# Altium integrated library Custom Libs.IntLib: 56 symbols
Pins are listed as number, name and electrical type; pins without a type are passive.

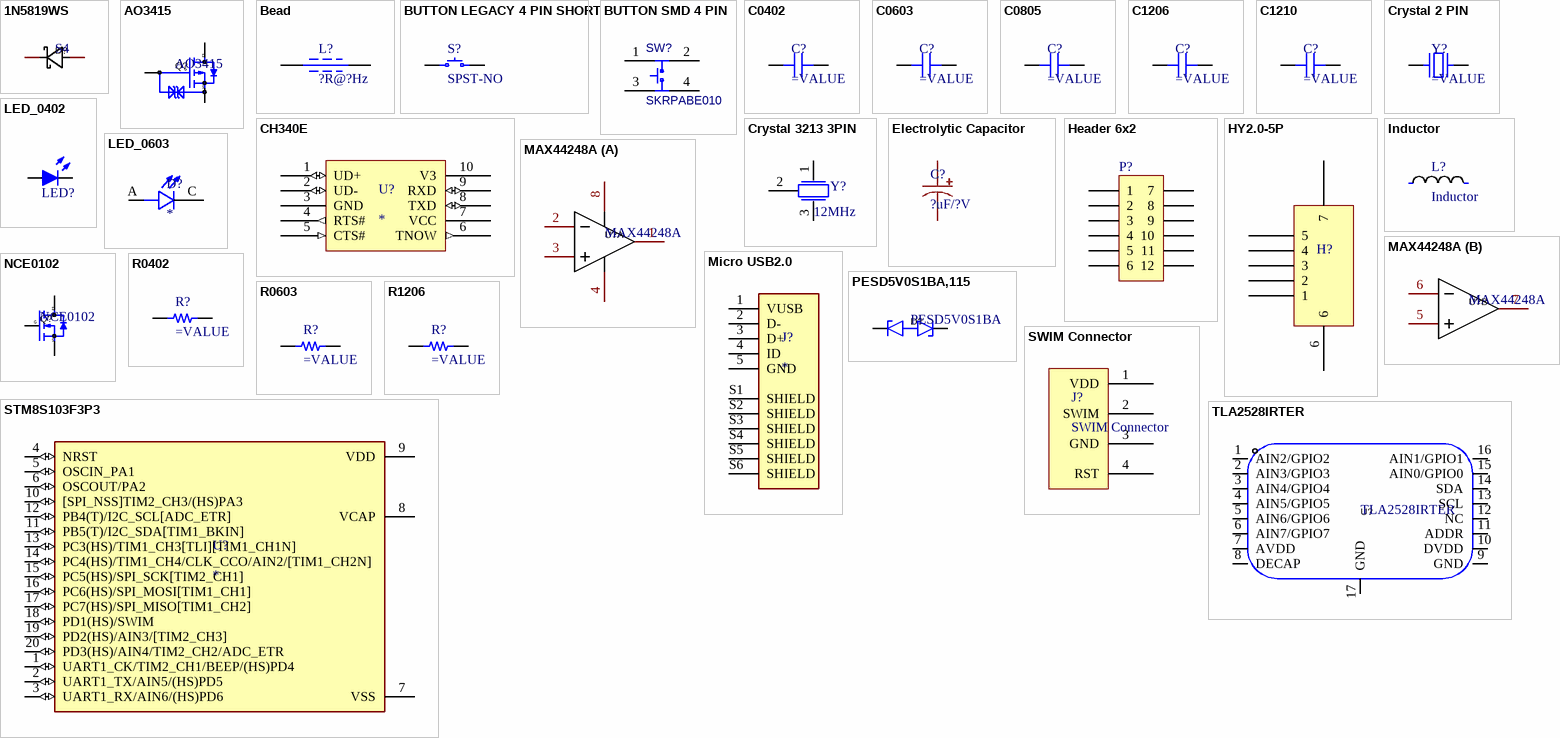
[diagram p0: symbols 1N5819WS to TLA2528IRTER]

## 1N5819WS
designator D?, comment S4
Schottky Diode 1N5819 , S4; Manufacturer: JSMSEMI(杰盛微); Symbol: 1N5819WS S4; Device: 1N5819WS S4_C2927280; Add into BOM: yes; Diode Configuration: 独立式; Forward Voltage (Vf@If): 600mV@200mA; Reverse Voltage (Vr): 40V; Average Rectified Current (Io): 350mA; Reverse Leakage Current (Ir): 5uA@30V; Supplier: LCSC; Supplier Part: C2927280; Manufacturer Part: 1N5819WS S4; JLCPCB Part Class: Extended Part; LCSC Part Name: 电压:40V 电流:350mA; Supplier Footprint: SOD-323; Datasheet: https://atta.szlcsc.com/upload/public/pdf/source/20211230/020DF3ABCB41CBA5E28580D63AFB2CA3.pdf; Convert to PCB: yes
footprint SOD-323
pins: 1 C, 2 A

## AO3415
designator Q?
20V Low Rds P-Channel MOSFET - Hottech; Manufacturer: Hottech(合科泰); Symbol: AO3415_C181094; Add into BOM: yes; Type: P沟道; Continuous Drain Current (Id): 4A; Power Dissipation (Pd): 1.5W; Drain Source On Resistance (RDS(on)@Vgs,Id): 41mΩ@4.5V,4A; Gate Threshold Voltage (Vgs(th)@Id): 900mV@250uA; Device: AO3415_C181094; LCSC Part Name: P沟道 耐压:20V 电流:4A; Supplier Part: C181094; Manufacturer Part: AO3415; Supplier Footprint: SOT-23; JLCPCB Part Class: Extended Part; Datasheet: https://atta.szlcsc.com/upload/public/pdf/source/20180131/C181094_15173931965481329223.pdf; Supplier: LCSC; Convert to PCB: yes; Drain Source Voltage (Vdss): 20V
footprint SOT-23-3
pins: 1 G, 2 S, 3 D

## Bead
designator L?, comment ?R@?Hz
Ferrite Bead.
pins: 1, 2

## BUTTON LEGACY 4 PIN SHORT
designator S?, comment SPST-NO
footprint BUTTON TE FSM4JSMA
pins: 1, 2, 3, 4

## BUTTON SMD 4 PIN
designator SW?, comment SKRPABE010
Surface Mount Button; BOM_Manufacturer: ALPS; BOM_Supplier: LCSC; BOM_Manufacturer Part: SKRPABE010; BOM_Supplier Part: C115360; spicePre: S; spiceSymbolName: SKRPABE010
footprint BUTTON SMD 4P_L4.20-W3.20
pins: 1, 2, 3, 4

## C0402
designator C?
SMT Capacitor
footprint 0402_C
pins: 1, 2

## C0603
designator C?
SMT Capacitor
footprint 0603_C
pins: 1, 2

## C0805
designator C?
SMT Capacitor
footprint 0805_C
pins: 1, 2

## C1206
designator C?
SMT Capacitor
footprint 1206_C
pins: 1, 2

## C1210
designator C?
Surface mount ceramic capacitor.
footprint 1210_C
pins: 1, 2

## CH340E
designator U?
USB to Serial Port Chip CH340
footprint MSOP-10
pins: 1 UD+ (io), 2 UD- (io), 3 GND (power), 4 RTS# (out), 5 CTS# (in), 6 TNOW (out) "CH340T/E/X/B: Ongoing data transmission", 7 VCC (power), 8 TXD (io), 9 RXD (io), 10 V3 (power) "Connect to VCC when VCC is 3V3, connect"

## Crystal 2 PIN
designator Y?
SMT Crystal
footprint Crystal 2PIn (Crystal, 2-Leads, Body 1.20x2.00mm, Pitch 1.50mm, IPC Medium Density)
pins: 1, 2

## Crystal 3213 3PIN
designator Y?, comment 12MHz
Crystal 3213 3pin, no external compensation capacitors needed.
footprint SMD3213_3P
pins: 1, 2, 3

## Electrolytic Capacitor
designator C?, comment ?uF/?V
Electrolytic Capacitor
footprint CAP-SMD_4x5.4mm
footprint CAP-SMD_6.3X7.7MM
footprint CAP-SMD_10X10.5MM
pins: 1, 2

## Header 6x2
designator P?
Header 6x2 100mil; LatestRevisionDate: 17-Jul-2002; LatestRevisionNote: Re-released for DXP Platform.; Publisher: Altium Limited
signal-integrity model Connector
footprint 2.54MM_2X6
pins: 1, 2, 3, 4, 5, 6, 7, 8, 9, 10, 11, 12

## HY2.0-5P
designator H?  (value not drawn)
2.0mm Spacing Connector
footprint CON-SMD_HY2.0-5P
pins: 1, 2, 3, 4, 5, 6, 7

## Inductor
designator L?
User selectable inductor
footprint IND-SMD_0420
pins: 1, 2

## LED_0402
designator LED?
LED; MPN: LTST-C191TBKT-5A; MF: Lite-On; Current rating: 20mA; Colour: Blue
footprint 0402_LED
pins: 1 A, 2 K

## LED_0603
designator D?
CHIP LED WHITE 0603 TOP VIEW; MP: LTW-C191TLA; Package: None; Availability: Unavailable; Value: *; Price: None
footprint 0603_LED
pins: A, C

## MAX44248A
designator U?
Precision Op-Amp with Vos 2uV; Manufacturer: MAXIM(美信); Symbol: MAX44248ASA+T; Add into BOM: yes; Number of Circuits: 2; Device: MAX44248ASA+T; LCSC Part Name: MAX44248ASA; Supplier Part: C92065; Manufacturer Part: MAX44248ASA+T; Supplier Footprint: SO-8; JLCPCB Part Class: Extended Part; Datasheet: https://atta.szlcsc.com/upload/public/pdf/source/20170105/1483610783114.pdf; Supplier: LCSC; Convert to PCB: yes
footprint SO-8
footprint UMAX-8
part A pins: 1 OUTA, 2 INA-, 3 INA+, 4 VSS, 8 VDD
part B pins: 5 INB+, 6 INB-, 7 OUTB

## Micro USB2.0
designator J?
Micro USB 2.0, Input Output Connectors, B TYPE RECEPTACLE; MP: 10118193-0001LF; MF: Amphenol ICC; Value: *; Package: None; Check_prices: https://www.snapeda.com/parts/10118193-0001LF/Amphenol+FCI/view-part/?ref=eda; Purchase-URL: https://pricing.snapeda.com/search/part/10118193-0001LF/?ref=eda; Price: None; Availability: In Stock; SnapEDA_Link: https://www.snapeda.com/parts/10118193-0001LF/Amphenol+FCI/view-part/?ref=snap
footprint Micro USB 2.0
pins: 1 VUSB, 2 D-, 3 D+, 4 ID, 5 GND, S1 SHIELD, S2 SHIELD, S3 SHIELD, S4 SHIELD, S5 SHIELD, S6 SHIELD

## NCE0102
designator Q?
N-Channel MOSFET, Rds < 240m Ohm; Manufacturer: NCE(无锡新洁能); Add into BOM: yes; Type: N沟道; Drain Source Voltage (Vdss): 100V; Continuous Drain Current (Id): 2A; Power Dissipation (Pd): 1.25W; Drain Source On Resistance (RDS(on)@Vgs,Id): 240mΩ@10V,1A; Gate Threshold Voltage (Vgs(th)@Id): 2.5V@250uA; Symbol: NCE0102; Device: NCE0102; LCSC Part Name: N沟道 耐压:100V 电流:2A; Supplier Part: C161843; Manufacturer Part: NCE0102; Supplier Footprint: SOT-23; JLCPCB Part Class: Extended Part; Datasheet: https://atta.szlcsc.com/upload/public/pdf/source/20171230/C161843_15146280887171222118.pdf; Supplier: LCSC; Convert to PCB: yes
footprint SOT-23-3
pins: 1 G, 2 S, 3 D

## PESD5V0S1BA,115
designator D?, comment PESD5V0S1BA
Bidirectional TVS, 14.5V; Manufacturer: Nexperia(安世); Symbol: PESD5V0S1BA,115; Add into BOM: yes; polarity: 双向; Reverse Stand-Off Voltage (Vrwm): 5V; Maximum Clamping Voltage: 14V; Peak Pulse Current (Ipp)@10/1000us: 12A; Peak Pulse Power Dissipation (Ppp)@10/1000us: 130W; Breakdown Voltage: 5.5V; Device: PESD5V0S1BA,115; Supplier: LCSC; Manufacturer Part: PESD5V0S1BA,115; Supplier Part: C19224; JLCPCB Part Class: Extended Part; LCSC Part Name: PESD5V0S1BA,115; Supplier Footprint: SOD-323; Datasheet: https://atta.szlcsc.com/upload/public/pdf/source/20161024/1477288630856.pdf; Convert to PCB: yes; Type: TVS
footprint SOD-323_BiD
pins: 1, 2

## R0402
designator R?
SMT Resistor
footprint 0402_R
pins: 1, 2

## R0603
designator R?
SMT Resistor
footprint 0603_R
pins: 1, 2

## R1206
designator R?
SMT Resistor
footprint 1206_R
pins: 1, 2

## STM8S103F3P3
designator U?
STM8 STM8S Microcontroller IC 8-Bit 16MHz 8KB _8K x 8_ FLASH 20-TSSOP; MF: STMicroelectronics; MP: STM8S103F3P3; Package: TSSOP-20 STMicroelectronics; Price: None; Availability: Unavailable; SnapEDA_Link: https://www.snapeda.com/parts/STM8S103F3P3/STMicroelectronics/view-part/443750/?ref=snap; Value: *
footprint SOP65P640X120-20N
pins: 1 UART1_CK/TIM2_CH1/BEEP/(HS)PD4 (io), 2 UART1_TX/AIN5/(HS)PD5 (io), 3 UART1_RX/AIN6/(HS)PD6 (io), 4 NRST (io), 5 OSCIN_PA1 (io), 6 OSCOUT/PA2 (io), 7 VSS (power), 8 VCAP, 9 VDD (power), 10 [SPI_NSS]TIM2_CH3/(HS)PA3 (io), 11 PB5(T)/I2C_SDA[TIM1_BKIN] (io), 12 PB4(T)/I2C_SCL[ADC_ETR] (io), 13 PC3(HS)/TIM1_CH3[TLI][TIM1_CH1N] (io), 14 PC4(HS)/TIM1_CH4/CLK_CCO/AIN2/[TIM1_CH2N] (io), 15 PC5(HS)/SPI_SCK[TIM2_CH1] (io), 16 PC6(HS)/SPI_MOSI[TIM1_CH1] (io), 17 PC7(HS)/SPI_MISO[TIM1_CH2] (io), 18 PD1(HS)/SWIM (io), 19 PD2(HS)/AIN3/[TIM2_CH3] (io), 20 PD3(HS)/AIN4/TIM2_CH2/ADC_ETR (io)

## SWIM Connector
designator J?
SWIM Connector for STM8
footprint SWIM_2.54MM_1X4
pins: 1 VDD (power), 2 SWIM, 3 GND (power), 4 RST

## TLA2528IRTER
designator U?
ADC/GPIO to I2C Converter IC. / 8-Channel, 12-Bit ADC With I / 2C Interface and GPIOs; Manufacturer: TI(德州仪器); Add into BOM: yes; number of channels: 8; Supply Voltage: 2.35V~5.5V; resolution: 12位; Symbol: TLA2528IRTER; Device: TLA2528IRTER; LCSC Part Name: TLA2528IRTER; Supplier Part: C2866175; Manufacturer Part: TLA2528IRTER; Supplier Footprint: WQFN-16-EP(3x3); JLCPCB Part Class: Extended Part; Datasheet: https://www.ti.com/cn/lit/gpn/tla2528; Supplier: LCSC; Convert to PCB: yes; Interface: I2C; Operating Temperature: -40℃~+85℃
footprint WQFN-16
pins: 1 AIN2/GPIO2, 2 AIN3/GPIO3, 3 AIN4/GPIO4, 4 AIN5/GPIO5, 5 AIN6/GPIO6, 6 AIN7/GPIO7, 7 AVDD, 8 DECAP, 9 GND, 10 DVDD, 11 ADDR, 12 NC, 13 SCL, 14 SDA, 15 AIN0/GPIO0, 16 AIN1/GPIO1, 17 GND


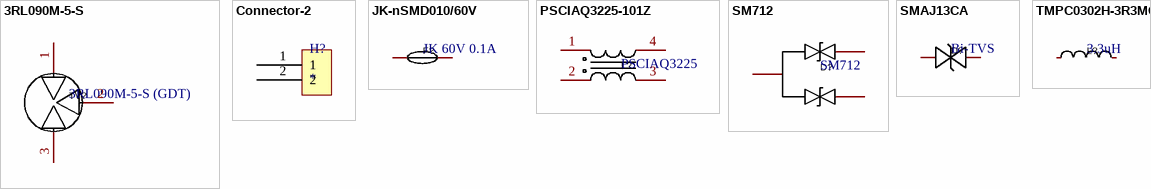
[diagram p1: symbols 3RL090M-5-S to TMPC0302H-3R3MG]

## 3RL090M-5-S
designator TV?, comment 3RL090M-5-S (GDT)
Gas Discharge Tube; Manufacturer: Brightking(君耀电子); Add into BOM: yes; Number of Poles: 3; DC Spark-over Voltage: 90V; Tolerance: ±20%; Nominal Impulse Discharge Current: 5kA; Maximum Capacitance @ 1MHz: 2pF; Name: 3RL090M-5-S; Symbol: 3RL090M-5-S; Device: 3RL090M-5-S; LCSC Part Name: 90V 5kA 3端贴片GDT; Supplier Part: C78322; Manufacturer Part: 3RL090M-5-S; Supplier Footprint: SMD,5x6.6mm; JLCPCB Part Class: Extended Part; Datasheet: https://atta.szlcsc.com/upload/public/pdf/source/20160709/1468031850741.pdf; Supplier: LCSC; Convert to PCB: yes
footprint DIO-DT-SMD
pins: 1, 2, 3

## Connector-2
designator H?
Two pin connector.
footprint CONNECT_PAD
pins: 1, 2

## JK-nSMD010/60V
designator F?, comment JK 60V 0.1A
Resettable Fuse; Manufacturer: JK(金科); Name: JK-nSMD010/60V; Add into BOM: yes; Symbol: JK-NSMD010/60V; Device: JK-nSMD010/60V; LCSC Part Name: 100mA 60V; Supplier Part: C2830236; Manufacturer Part: JK-nSMD010/60V; Supplier Footprint: SMD1206; JLCPCB Part Class: Extended Part; Datasheet: https://atta.szlcsc.com/upload/public/pdf/source/20210427/C2830251_B9511B640A50AD6A91174E2DDDD254CA.pdf; Supplier: LCSC; Convert to PCB: yes
footprint F1206
3D model F1206_L3.2-W1.7-H0.6
pins: 1, 2

## PSCIAQ3225-101Z
designator L?, comment PSCIAQ3225
Common mode choke - 5.1KOhm @ 10Mhz; Manufacturer: PROD(谱罗德); Name: PSCIAQ3225-101Z; Add into BOM: yes; Number of Lines: 2; Impedance @ Frequency: 5.1kΩ@10MHz; Inductance @ Frequency: 100uH@100kHz; Current Rating: 150mA; DC Resistance (DCR): 1.5Ω; Voltage Rating - DC: 80V; Voltage Rating: 80VAC; Symbol: PSCIAQ3225-101Z; Device: PSCIAQ3225-101Z; LCSC Part Name: 两路 1210共模滤波器 阻抗5.1kΩ@10MHz; Supplier Part: C3011568; Manufacturer Part: PSCIAQ3225-101Z; Supplier Footprint: 1210; JLCPCB Part Class: Extended Part; Datasheet: https://atta.szlcsc.com/upload/public/pdf/source/20221209/0F115E7BC87283E32C2A7BCB65AC9CDC.pdf; Supplier: LCSC; Convert to PCB: yes; Operating Temperature: -25℃~+105℃; Withstanding Voltage: 80V
footprint FILTER-SMD_4P
pins: 1, 2, 3, 4

## SM712
designator D?
Dual channel ESD discharger; Manufacturer: TECH PUBLIC(台舟); Symbol: SM712_C521963; Add into BOM: yes; Name: SM712; Device: SM712_C521963; LCSC Part Name: SM712; Supplier Part: C521963; Manufacturer Part: SM712; Supplier Footprint: SOT-23; JLCPCB Part Class: Extended Part; Datasheet: https://atta.szlcsc.com/upload/public/pdf/source/20210810/E76C7C1824B0CB2A5B8963B3ABCE2DCE.pdf; Supplier: LCSC; Convert to PCB: yes
footprint SOT-23-3
pins: 1, 2, 3

## SMAJ13CA
designator D?, comment Bi-TVS
Bidirectional TVS; Manufacturer: Slkor(萨科微); Name: SMAJ13CA; Symbol: SMAJ13CA_C513473; Add into BOM: yes; Polarity: 双向; Reverse Stand-Off Voltage (Vrwm): 13V; Breakdown Voltage: 14.4V; Peak Pulse Current (Ipp)@10/1000μs: 18.6A; Maximum Clamping Voltage: 21.5V; Device: SMAJ13CA_C513473; LCSC Part Name: 双向 Vrwm:13V; Supplier Part: C513473; Manufacturer Part: SMAJ13CA; Supplier Footprint: SMA; JLCPCB Part Class: Extended Part; Datasheet: https://atta.szlcsc.com/upload/public/pdf/source/20200414/C513473_E63E0FD439519C3FF443B186760FCA0C.pdf; Supplier: LCSC; Convert to PCB: yes
footprint SMA-BI
pins: 1 C, 2 A

## TMPC0302H-3R3MG
designator L?, comment 3.3uH
SMD power inductor 3.3uH; Manufacturer: TAI-TECH(台庆); Symbol: TMPC0302H-3R3MG; Add into BOM: yes; Tolerance: ±20%; Rated Current: 3A; DC Resistance (DCR): 125mΩ; Name: 3.3uH; Device: TMPC0302H-3R3MG; LCSC Part Name: 3.3uH ±20% 3A 125mΩ; Supplier Part: C305200; Manufacturer Part: TMPC0302H-3R3MG; Supplier Footprint: SMD; JLCPCB Part Class: Extended Part; Datasheet: https://atta.szlcsc.com/upload/public/pdf/source/20200917/C305200_025B938FDDD8216CB9AF20170083C431.pdf; Supplier: LCSC; Convert to PCB: yes; Value: 3.3uH
footprint IND-SMD_L3.5-W3.2
3D model IND-SMD_L3.5-W3.2-H0.8
pins: 1, 2


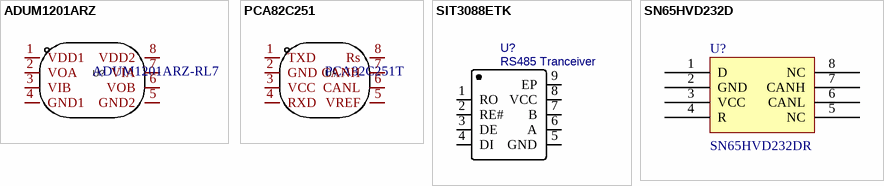
[diagram p2: symbols ADUM1201ARZ to SN65HVD232D]

## ADUM1201ARZ
designator U?, comment ADUM1201ARZ-RL7
Digital Isolator; Manufacturer: ADI(亚德诺)/LINEAR(凌特); Add into BOM: yes; Isolation Technology: 磁隔离; Number of Channels: 2; Forward Channel: 1; Voltage Isolation or Not: 带电压隔离; Isolation voltage: 2500Vrms; Data Rate: 1Mbps; Supply Voltage: 2.7V~5.5V; Name: ADUM1201ARZ-RL7; Symbol: ADUM1201ARZ-RL7; Device: ADUM1201ARZ-RL7; LCSC Part Name: ADUM1201ARZ-RL7; Supplier Part: C9669; Manufacturer Part: ADUM1201ARZ-RL7; Supplier Footprint: SOIC-8; JLCPCB Part Class: Basic Part; Datasheet: https://atta.szlcsc.com/upload/public/pdf/source/20121103/1457706544769.pdf; Supplier: LCSC; Convert to PCB: yes; Applications: 通用; Reverse channel: 1; Operating Temperature: -55℃~+100℃
footprint SOP-8
pins: 1 VDD1, 2 VOA, 3 VIB, 4 GND1, 5 GND2, 6 VOB, 7 VIA, 8 VDD2

## PCA82C251
designator U?, comment PCA82C251T
CAN transceiver; Manufacturer: Tokmas(托克马斯); Add into BOM: yes; Name: PCA82C251T; Symbol: PCA82C251T; Device: PCA82C251T; LCSC Part Name: PCA82C251T; Supplier Part: C7432796; Manufacturer Part: PCA82C251T; Supplier Footprint: SOP-8; Datasheet: https://atta.szlcsc.com/upload/public/pdf/source/20230625/276DDB82A8AA19CE4785C79DB2491288.pdf; Supplier: LCSC; Convert to PCB: yes; link: https://atta.szlcsc.com/upload/public/pdf/source/20230621/1484E0AD24B83654AF18D5B601DFC963.pdf
footprint SOP-8
pins: 1 TXD, 2 GND, 3 VCC, 4 RXD, 5 VREF, 6 CANL, 7 CANH, 8 Rs

## SIT3088ETK
designator U?, comment RS485 Tranceiver
3.0V-5.5V RS485 Wide input Voltage , Half Duplex ,  MAX +-15V Bus Voltage , Maximum 14Mbps Baudrates in noisy environment; BOM_Manufacturer: SIT(芯力特); BOM_Manufacturer Part: SIT3088ETK; Contributor: LCSC; BOM_Supplier: LCSC; BOM_Supplier Part: C601076; BOM_JLCPCB Part Class: Extended Part; spicePre: U; spiceSymbolName: SIT3088ETK; ComponentLink1Description: Vendor Link; ComponentLink1URL: https://item.szlcsc.com/630346.html
footprint DFN-8_L3.0-W3.0-P0.65-BL-EP
pins: 1 RO, 2 RE#, 3 DE, 4 DI, 5 GND, 6 A, 7 B, 8 VCC, 9 EP

## SN65HVD232D
designator U?, comment Manufacturer Part Number: SN65HVD232DR  (hidden comment: CAN Tranceiver)
3.3-V CAN Bus Transceivers; Manufacturer: Texas Instruments; Number of Drivers/Receivers: 1/1; Duplex: Half; Data Rate: 1Mbps; Voltage - Supply: 3 V ~ 3.6 V; Supplier 1: Digi-Key; Supplier Part Number 1: 296-26344-2-ND; RoHS: RoHS Compliant; Category: Integrated Circuits (ICs); Stock: 5000; Pricing 1: 2500=0.84375 (USD); Packaging: Tape & Reel (TR); Part Status: Active; Type: Transceiver; Protocol: CAN; Operating Temperature: -40°C ~ 85°C; Mounting Type: Surface Mount; Package / Case: 8-SOIC (0.154", 3.90mm Width); Supplier Device Package: 8-SOIC; ComponentLink1URL: http://www.ti.com/lit/ds/symlink/sn65hvd230.pdf; ComponentLink1Description: Datasheet; Supplier 2: Digi-Key; Supplier Part Number 2: 296-26344-1-ND; Pricing 2: 1=2.05, 10=1.842, 100=1.4809, 500=1.21668, 1000=1.00811 (USD); ComponentLink2Description: Vendor Link; ComponentLink2URL: https://item.szlcsc.com/31287.html
footprint SOIC-8
pins: 1 D, 2 GND, 3 VCC, 4 R, 5 NC, 6 CANL, 7 CANH, 8 NC


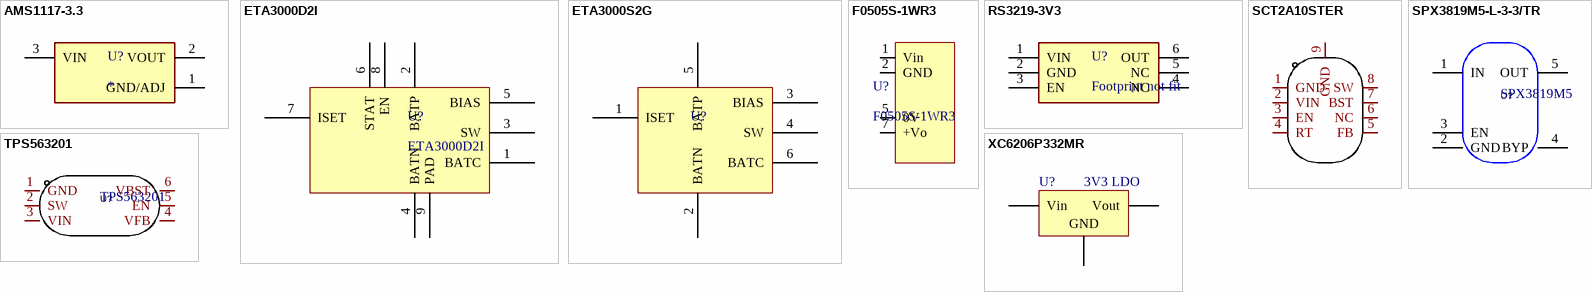
[diagram p3: symbols AMS1117-3.3 to XC6206P332MR]

## AMS1117-3.3
designator U?
Sot223/Pkg 1-Amp 3.3-Volt Low Drop Out Voltage Regulatator; MF: Advanced Monolithic Systems; MP: AMS1117-3.3; Package: SOT-223 Seeed Technology; Value: *; Check_prices: https://www.snapeda.com/parts/AMS1117-3.3/Advanced+Monolithic+Systems/view-part/?ref=eda; Price: None; Availability: Not in stock; SnapEDA_Link: https://www.snapeda.com/parts/AMS1117-3.3/Advanced+Monolithic+Systems/view-part/?ref=snap
footprint SOT229P700X180-4N
pins: 1 GND/ADJ (power), 2 VOUT (power), 3 VIN (power)

## ETA3000D2I
designator U?
Series Battery Balancer
footprint DFN-8
pins: 1 BATC, 2 BATP, 3 SW, 4 BATN, 5 BIAS, 6 STAT, 7 ISET, 8 EN, 9 PAD

## ETA3000S2G
designator U?, comment Battery Balancer IC  (value not drawn)
Series Battery Balancer
footprint SOT-23-6
pins: 1 ISET, 2 BATN, 3 BIAS, 4 SW, 5 BATP, 6 BATC

## F0505S-1WR3
designator U?
MORNSUN Isolation Power supply
footprint F_S-1WR3
pins: 1 Vin, 2 GND, 5 0V, 7 +Vo

## RS3219-3V3
designator U?, comment Footprint not fit
SOT23-5 3V3 LDO, Capable of 300mA Output Current.; MF: Advanced Monolithic Systems; MP: AMS1117-3.3; Package: SOT-223 Seeed Technology; Value: *; Check_prices: https://www.snapeda.com/parts/AMS1117-3.3/Advanced+Monolithic+Systems/view-part/?ref=eda; Price: None; Availability: Not in stock; SnapEDA_Link: https://www.snapeda.com/parts/AMS1117-3.3/Advanced+Monolithic+Systems/view-part/?ref=snap
footprint SOT-23-6
pins: 1 VIN (power), 2 GND (power), 3 EN (power), 4 NC (power), 5 NC (power), 6 OUT (power)

## SCT2A10STER
designator U?, comment DCDC Buck  (value not drawn)
4.5V-85V Vin, 0.6A, Synchronous Step-down DCDC / Converter with Programmable Frequency; Manufacturer: SCT(芯洲科技); Name: SCT2A10STER; Add into BOM: yes; Symbol: SCT2A10STER; Device: SCT2A10STER; LCSC Part Name: 电源IC; Supplier Part: C509053; Manufacturer Part: SCT2A10STER; Supplier Footprint: ESOP-8L; JLCPCB Part Class: Extended Part; Datasheet: https://atta.szlcsc.com/upload/public/pdf/source/20200628/C509053_23337C22B8567B437AB54DC2021FACC2.pdf; Supplier: LCSC; Convert to PCB: yes; ComponentLink1Description: Vendor Link; ComponentLink1URL: https://so.szlcsc.com/global.html?k=SCT2A10STER&hot-key=LM358
footprint ESOP-8_L4.9-W3.9-P1.27-LS6.0-BL-EP
pins: 1 GND, 2 VIN, 3 EN, 4 RT, 5 FB, 6 NC, 7 BST, 8 SW, 9 GND

## SPX3819M5-L-3-3/TR
designator U?, comment SPX3819M5
3V3 LDO, 16V Input range. 500mA Capable Output.; Manufacturer: MaxLinear(迈凌); Symbol: SPX3819M5-L-3-3/TR; Add into BOM: yes; Output Type: 固定; Output Voltage: 3.3V; Power Supply Rejection Ratio (PSRR): 70dB; Dropout Voltage: 700mV@(500mA); standby current: 8uA; Output Polarity: 正极; Number of Outputs: 1; Device: SPX3819M5-L-3-3/TR; LCSC Part Name: 输入16V 输出3.3V 500mA; Supplier Part: C9055; Manufacturer Part: SPX3819M5-L-3-3/TR; Supplier Footprint: SOT-23-5; JLCPCB Part Class: Extended Part; Datasheet: https://atta.szlcsc.com/upload/public/pdf/source/20150720/1457707331934.pdf; Supplier: LCSC; Convert to PCB: yes; Maximum Input Voltage: 16V; MAX Output Current: 500mA; Operating Temperature: -40℃~+125℃
footprint SOT-23-5
pins: 1 IN, 2 GND, 3 EN, 4 BYP, 5 OUT

## TPS563201
designator U?
DCDC In 4.5V~17V Out 768mV~7V 3A; Manufacturer: TI(德州仪器); Name: TPS563201DDCR; Add into BOM: yes; Function: 降压型; Synchronous Rectification: 是; Output Type: 可调; Number of Outputs: 1; Topology: 降压式; Switching Frequency: 580kHz; Symbol: TPS563201DDCR; Device: TPS563201DDCR; LCSC Part Name: 降压型 Vin=4.5V~17V Vout=768mV~7V 3A; Supplier Part: C116592; Manufacturer Part: TPS563201DDCR; Supplier Footprint: SOT-23-Thin-6; JLCPCB Part Class: Extended Part; Datasheet: https://atta.szlcsc.com/upload/public/pdf/source/20170707/1499421477081.pdf; Supplier: LCSC; Convert to PCB: yes; Input Voltage: 4.5V~17V; Output Voltage: 768mV~7V; Output Current (Max): 3A; Operating Temperature: -40℃~+125℃@(TJ)
footprint SOT-23-6
pins: 1 GND, 2 SW, 3 VIN, 4 VFB, 5 EN, 6 VBST

## XC6206P332MR
designator U?, comment 3V3 LDO
3V3 LDO , MAXIMUM 6V Input , 250mA Load Capacity; ComponentLink1Description: Vendor Link; ComponentLink1URL: http://www.szlcsc.com/product/details_5896.html; Package: SOT-23; Supplier: LC; SuppliersPartNumber: C5446
footprint SOT-23-3
pins: 1 GND, 2 Vout, 3 Vin


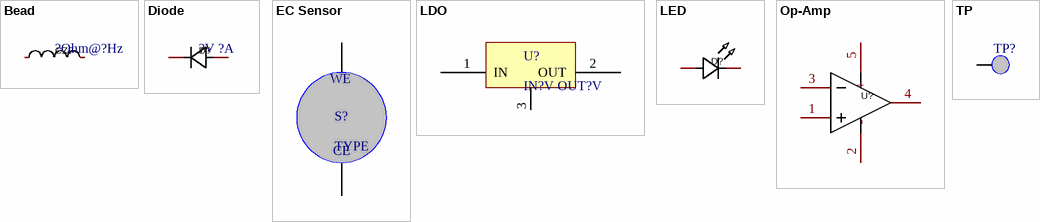
[diagram p4: symbols Bead to TP]

## Bead
designator CZ?, comment ?Ohm@?Hz
Common Smd Bead; Manufacturer: muRata(村田); Name: BLM18AG601SN1D; Add into BOM: yes; Impedance @ Frequency: 600Ω@100MHz; Tolerance: ±25%; DC Resistance: 380mΩ; Current Rating: 500mA; Circuits: 1; Symbol: BLM18AG601SN1D; Device: BLM18AG601SN1D; LCSC Part Name: 单路 0603磁珠 阻抗600Ω@100MHz; Supplier Part: C19330; Manufacturer Part: BLM18AG601SN1D; Supplier Footprint: 0603; JLCPCB Part Class: Extended Part; Datasheet: https://atta.szlcsc.com/upload/public/pdf/source/20180326/C19330_93F4AC33FF94C8E22511353688ADC0FA.pdf; Supplier: LCSC; Convert to PCB: yes
footprint L0603
3D model L0603_L1.6-W0.8-H0.5_BEAD
pins: 1, 2

## Diode
designator D?, comment ?V ?A
Common Diode; Manufacturer: TWGMC(台湾迪嘉); Name: 1N4007; Symbol: 1N4007_C727081; Add into BOM: yes; Forward Voltage (Vf@If): 1.1V 1A; Reverse Leakage Current: 5uA 1kV; Reverse Voltage (Vr): 1kV; Diode Configuration: 独立式; Average Rectified Current (Io): 1A; Device: 1N4007_C727081; LCSC Part Name: 1N4007; Supplier Part: C727081; Manufacturer Part: 1N4007; Supplier Footprint: SMA(DO-214AC); JLCPCB Part Class: Extended Part; Datasheet: https://atta.szlcsc.com/upload/public/pdf/source/20200828/C727079_3A05254382567072883400655AE0ED46.pdf; Supplier: LCSC; Convert to PCB: yes
pins: 1 K, 2 A

## EC Sensor
designator S?, comment TYPE
EC Sensor 2 Pin
pins: 6, 7
text: WE; CE

## LDO
designator U?, comment IN?V OUT?V
Low Dropout Regulator
pins: 1 IN, 2 OUT, 3 GND

## LED
designator D?, comment MHK1375CRBTD  (value not drawn)
Light Emitting Diode; Manufacturer: MEIHUA(美华); Add into BOM: yes; Emitted Color: 红灯; Lens Color: 雾状红; Dominant Wavelength: 628nm; Forward Current: 20mA; Power Dissipation: 75mW; Viewing Angle: 60°; Lamp Holder Type: 组装式圆形灯头; Name: MHK1375CRBTD; Symbol: MHK1375CRBTD; Device: MHK1375CRBTD; LCSC Part Name: 红灯 LED货套单LED; Supplier Part: C2764901; Manufacturer Part: MHK1375CRBTD; Supplier Footprint: 插件,P=2.54mm; JLCPCB Part Class: Extended Part; Datasheet: https://atta.szlcsc.com/upload/public/pdf/source/20210406/C2764901_ED37C4554FC3F5D00E757EC836FABC51.pdf; Supplier: LCSC; Convert to PCB: yes; Diode Configuration: -; Peak Wavelength: -; Color Temperature: -; Mounting Sytle: -; Operating Temperature: -25℃~+85℃
footprint LED-TH_MHK1375CRBTD
3D model LED-TH_MHK1375CRBTD
pins: 1 A, 2 K

## Op-Amp
designator U?
Single Op-Amp In SOT-23-5; Manufacturer: Gainsil(聚洵); Name: LMV321-TR; Add into BOM: yes; Symbol: LMV321-TR; Device: LMV321-TR; LCSC Part Name: 低功耗,轨到轨输入输出,1通道运放; Supplier Part: C362273; Manufacturer Part: LMV321-TR; Supplier Footprint: SOT-23-5; JLCPCB Part Class: Extended Part; Datasheet: https://atta.szlcsc.com/upload/public/pdf/source/20220610/6BCF6B2E6D346723E41E276410E02207.pdf; Supplier: LCSC; Convert to PCB: yes; Number of Circuits: -
footprint SOT-23-5_L3.0-W1.7-P0.95-LS2.8-BR
3D model SOT-23-5_L2.9-W1.6-H1.1-LS2.8-P0.95
pins: 1 +IN, 2 -, 3 -IN, 4 OUT, 5 +

## TP
designator TP?  (value not drawn)
Test Point
pins: 8